# EAGLE library part NPNDUAL (library zetex)
Dual NPN TRANSISTOR
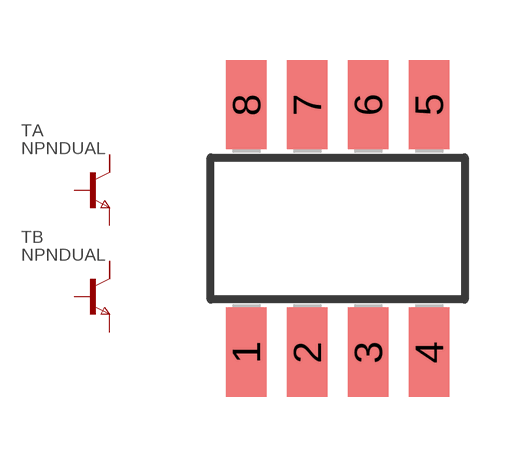
[diagram p2: symbol with the pads of SM8; footprint SM8]

Designator prefix T; gates A=NPN2C B=NPN2C

## NPNDUAL  [SM8]
1  B:E  pas
2  B:B  pas
3  A:E  pas
4  A:B  pas
5  A:C1  pas
6  A:C2  pas
7  B:C1  pas
8  B:C2  pas

## Footprint SM8 (pad centres in mm)
SM8 Package
smd 1.016 x 2.235: 1 -2.286,-3.099; 2 -0.762,-3.099; 3 0.762,-3.099; 4 2.286,-3.099; 5 2.286,3.099; 6 0.762,3.099; 7 -0.762,3.099; 8 -2.286,3.099